# Altium schematic symbol library Schlib1.SchLib: 20 symbols
Pins are listed as number, name and electrical type; pins without a type are passive.

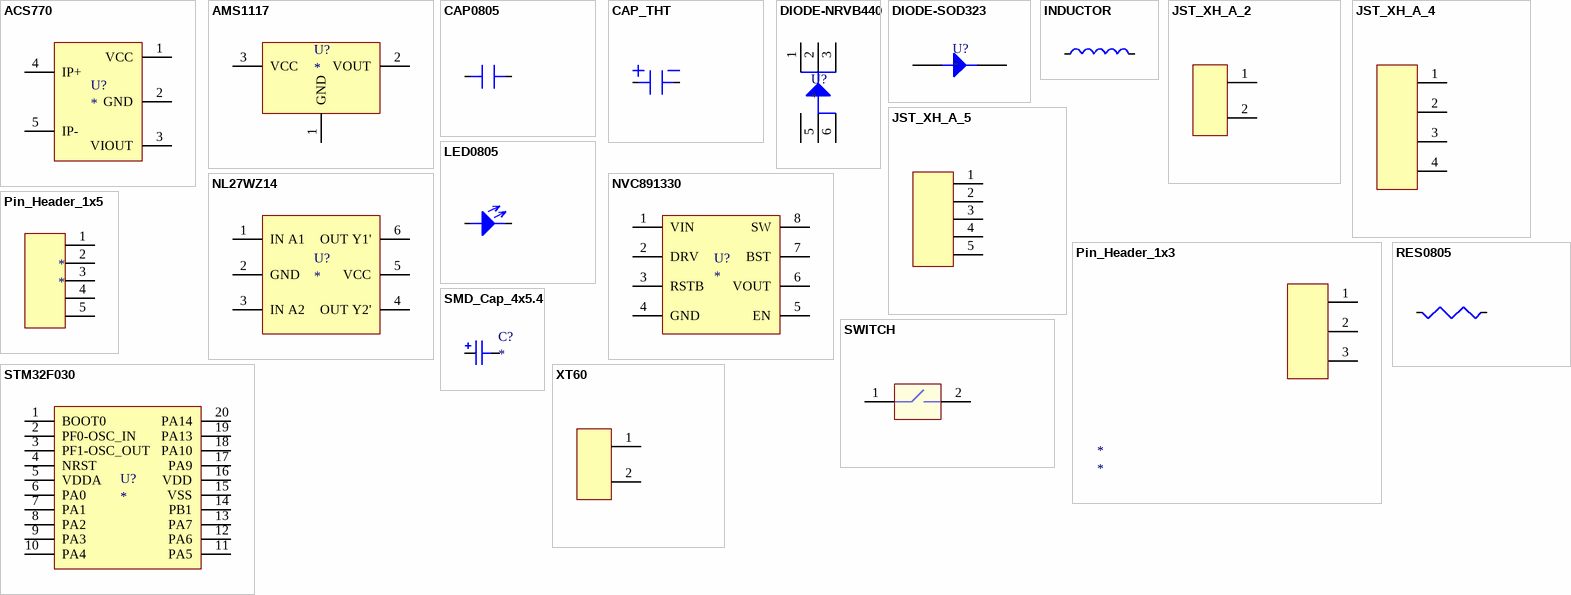
[diagram p0: symbols ACS770 to XT60]

## ACS770
designator U?
footprint ACS770
pins: 1 VCC, 2 GND, 3 VIOUT, 4 IP+, 5 IP-

## AMS1117
designator U?
footprint SOT223 (SOT223, 4-Leads, Body 6.50x7.00mm (avg), Pitch 2.30mm, IPC Medium Density)
pins: 1 GND, 2 VOUT, 3 VCC

## CAP0805
designator C?
footprint RES0805
pins: 1 *, 2 *

## CAP_THT
designator C?
footprint CAP_THT
pins: 1 *, 2 *

## DIODE-NRVB440
designator U?
footprint MBR440
pins: 1 A, 2 A, 3 A, 4 A, 5 C, 6 C

## DIODE-SOD323
designator U?
footprint SODFL250X100-2N (SODFL, 2-Leads, Body 1.25x2.50mm, IPC Medium Density)
pins: 1 ?, 2 ?

## INDUCTOR
designator *  (value not drawn)
IHLP-1212BZ-11
footprint IND-IHLP-1212BZ-11 (Molded Inductor, 2-Leads, Body 3.33x3.00mm, IPC Medium Density)
pins: 1 *, 2 *

## JST_XH_A_2
designator J?  (value not drawn)
footprint JST_XH_A_2
pins: 1 *, 2 *

## JST_XH_A_4
designator J?
footprint JST_XH_A_4
pins: 1 *, 2 *, 3 *, 4 *

## JST_XH_A_5
designator J?  (value not drawn)
footprint JST_XH_A_5
pins: 1 *, 2 *, 3 *, 4 *, 5 *

## LED0805
designator D?
footprint RES0805
pins: 1 *, 2 *

## NL27WZ14
designator U?
footprint TSOP6 (TSOP, 6-Leads, Body 3.00x1.50mm, Pitch 1.05mm, IPC Medium Density)
pins: 1 IN A1, 2 GND, 3 IN A2, 4 OUT Y2', 5 VCC, 6 OUT Y1'

## NVC891330
designator U?
footprint SOIC8 (SOIC, 8-Leads, Body 4.90x3.90mm, Pitch 1.27mm, Thermal Pad 3.20x2.51mm, IPC Medium Density)
pins: 1 VIN, 2 DRV, 3 RSTB, 4 GND, 5 EN, 6 VOUT, 7 BST, 8 SW

## Pin_Header_1x3
designator *
footprint Pin_Header_1x3
pins: 1 *, 2 *, 3 *

## Pin_Header_1x5
designator *
footprint Pin_Header_1x5
footprint Pin_Header_1x5
footprint Pin_Header_1x5
pins: 1 *, 2 *, 3 *, 4 *, 5 *

## RES0805
designator R?  (value not drawn)
footprint RES0805
pins: 1 *, 2 *

## SMD_Cap_4x5.4
designator C?
footprint Cap_4x5.4_SMD
pins: 1, 2

## STM32F030
designator U?
pins: 1 BOOT0, 2 PF0-OSC_IN, 3 PF1-OSC_OUT, 4 NRST, 5 VDDA, 6 PA0, 7 PA1, 8 PA2, 9 PA3, 10 PA4, 11 PA5, 12 PA6, 13 PA7, 14 PB1, 15 VSS, 16 VDD, 17 PA9, 18 PA10, 19 PA13, 20 PA14

## SWITCH
designator S?  (value not drawn)
footprint SWITCH
pins: 1 *, 2 *

## XT60
designator J?  (value not drawn)
footprint XT60
pins: 1 BOOT15, 2 BOOT16